# EAGLE library part OPA388 (library SOIC127P600X175-8N)
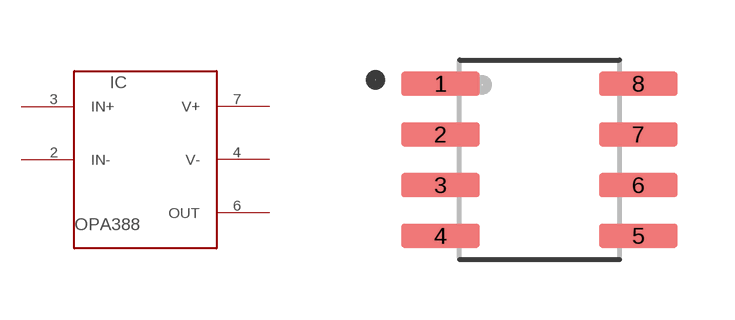
[diagram p0: symbol with the pads of SOIC127P600X175-8N; footprint SOIC127P600X175-8N]

Designator prefix IC

## OPA388  [SOIC127P600X175-8N]
1  NC1  nc
2  IN-  in
3  IN+  in
4  V-  pwr
5  NC2  nc
6  OUT  out
7  V+  pwr
8  NC3  nc

## Footprint SOIC127P600X175-8N (pad centres in mm)
smd 1.97 x 0.6: 1 -2.475,1.905; 2 -2.475,0.635; 3 -2.475,-0.635; 4 -2.475,-1.905; 5 2.475,-1.905; 6 2.475,-0.635; 7 2.475,0.635; 8 2.475,1.905